# Altium integrated library TI Amplifiers and Linear Instrumentation Amplifier.IntLib: 274 symbols (part 2 of 10)
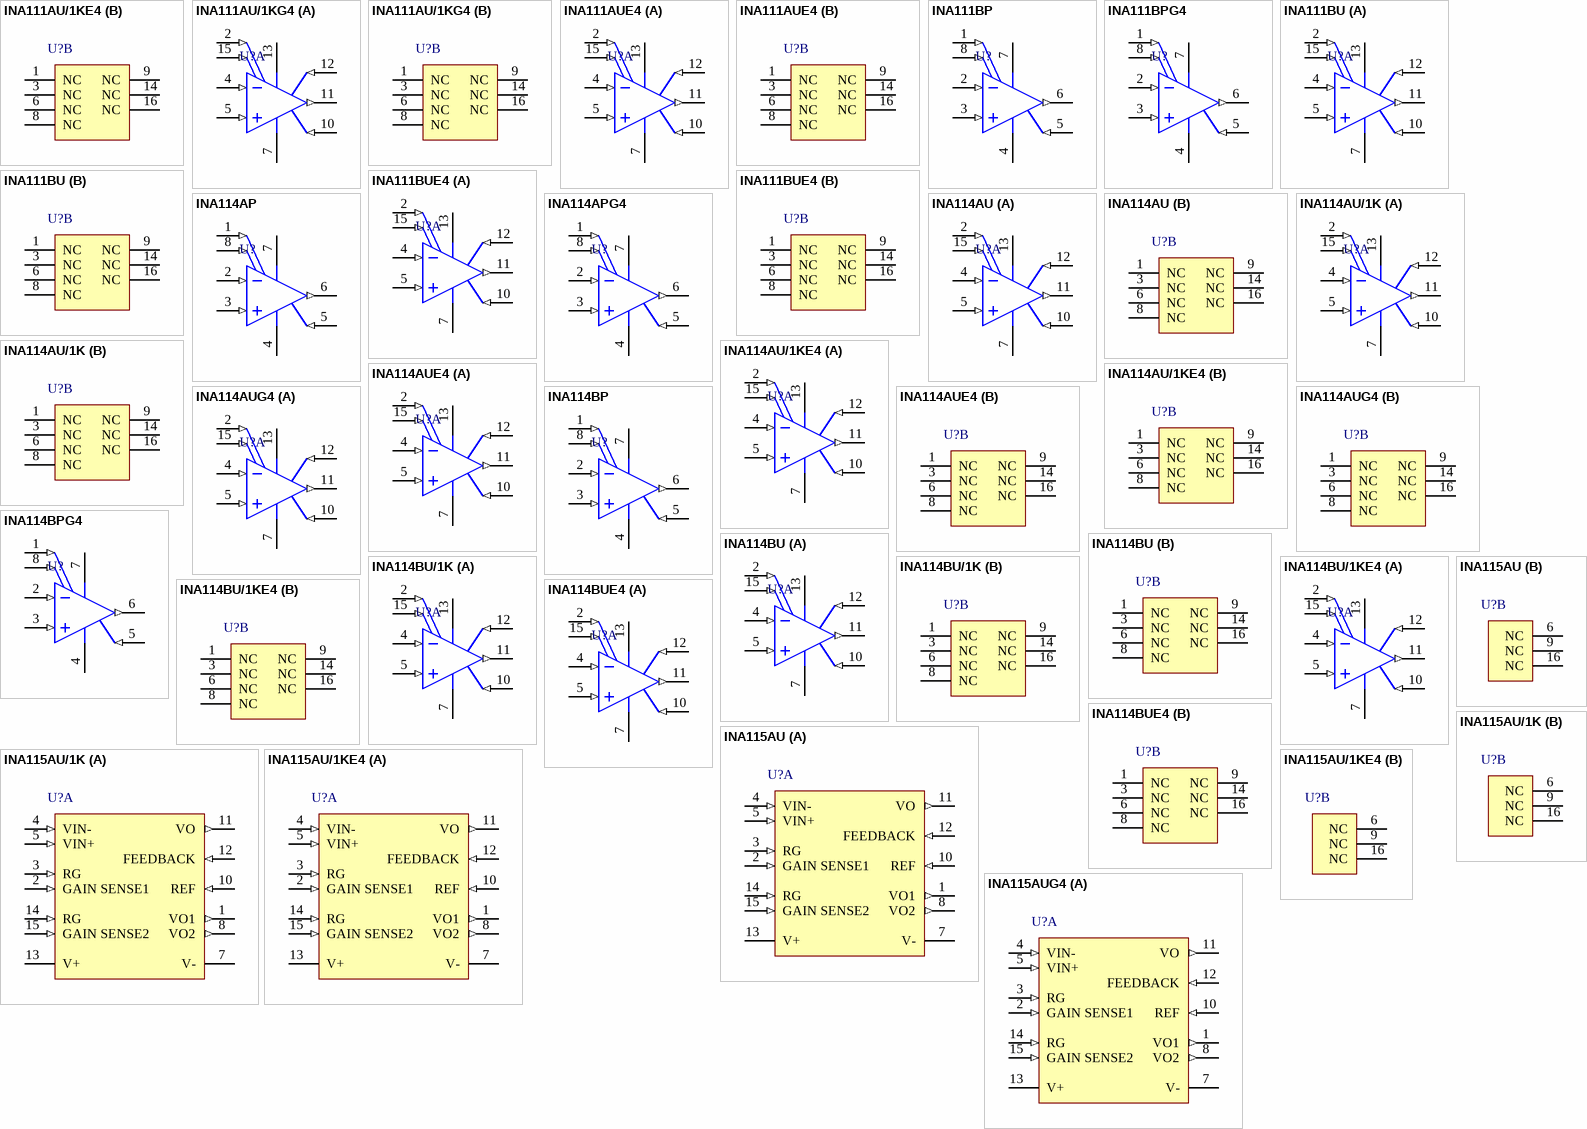
[diagram p9: symbols INA111AU/1KE4 to INA115AUG4]

## INA111BU
designator U?
High Speed FET-Input Instrumentation Amplifier, -40 to 85 degC, 16-pin SOIC (DW16), Green (RoHS & no Sb/Br); Manufacturer: Texas Instruments; PartNumber: INA111BU; CMRR(Min)(dB): 106; Gain(V/V): 1 to 10000; Input Bias Current (+/-)(Max)(nA): 0.02; Input Offset (+/-)(Max)(uV): 500; Input Offset Drift (+/-)(Max)(uV/Degrees Celsius): 5; Noise at 1kHz(Typ)(nV/rt(Hz)): 10; Non-Linearity (+/-)(Max)(%): 0.005; Number of Channels: 1; Quiescent Current (+/-)(Typ)(mA): 3.3; SubFamily: Dual Supply; Vs(Max)(V): 36; Vs(Min)(V): 12; DatasheetVersion: SBOS015; PackageVersion: 4040000-2/G, 01/2011; PackageReference: DW16; PackageDescription: 16-Pin Plastic Small Outline, Body 10.30 x 7.50 mm, Pitch 1.27 mm; Supplier 1: Digi-Key; Supplier Part Number 1: INA111BU-ND; Supplier 2: Farnell; Supplier Part Number 2: 1212398; Supplier 3: Newark; Supplier Part Number 3: 35C1715; Supplier 4: Mouser; Supplier Part Number 4: 595-INA111BU; Eco-Plan: Green (RoHS & no Sb/Br); Mounting Technology: Surface Mount; Code_JEDEC: MS-013; ComponentLink1Description: Manufacturer URL; ComponentLink1URL: http://www.ti.com/; ComponentLink2Description: Datasheet; ComponentLink2URL: http://www.ti.com/general/docs/lit/getliterature.tsp?genericPartNumber=INA111&fileType=pdf; ComponentLink3Description: Package Specification; ComponentLink3URL: http://www.ti.com/litv/pdf/msoi003g
footprint TI-DW16_N (SOIC, 16-Leads, Body 10.5x7.6mm, Pitch 1.27mm, IPC Medium Density)
footprint TI-DW16_L (SOIC, 16-Leads, Body 10.5x7.6mm, Pitch 1.27mm, IPC High Density)
footprint TI-DW16_M (SOIC, 16-Leads, Body 10.5x7.6mm, Pitch 1.27mm, IPC Low Density)
part A pins: 2 RG (in), 4 VIN- (in), 5 VIN+ (in), 7 V- (power), 10 REF (in), 11 VO (out), 12 FEEDBACK (in), 13 V+ (power), 15 RG (in)
part B pins: 1 NC, 3 NC, 6 NC, 8 NC, 9 NC, 14 NC, 16 NC

## INA111BUE4
designator U?
High Speed FET-Input Instrumentation Amplifier, -40 to 85 degC, 16-pin SOIC (DW16), Green (RoHS & no Sb/Br); Manufacturer: Texas Instruments; PartNumber: INA111BUE4; CMRR(Min)(dB): 106; Gain(V/V): 1 to 10000; Input Bias Current (+/-)(Max)(nA): 0.02; Input Offset (+/-)(Max)(uV): 500; Input Offset Drift (+/-)(Max)(uV/Degrees Celsius): 5; Noise at 1kHz(Typ)(nV/rt(Hz)): 10; Non-Linearity (+/-)(Max)(%): 0.005; Number of Channels: 1; Quiescent Current (+/-)(Typ)(mA): 3.3; SubFamily: Dual Supply; Vs(Max)(V): 36; Vs(Min)(V): 12; DatasheetVersion: SBOS015; PackageVersion: 4040000-2/G, 01/2011; PackageReference: DW16; PackageDescription: 16-Pin Plastic Small Outline, Body 10.30 x 7.50 mm, Pitch 1.27 mm; Supplier 1: Digi-Key; Supplier Part Number 1: INA111BUE4-ND; Supplier 2: Newark; Supplier Part Number 2: 28M6054; Supplier 3: Mouser; Supplier Part Number 3: 595-INA111BUE4; Eco-Plan: Green (RoHS & no Sb/Br); Mounting Technology: Surface Mount; Code_JEDEC: MS-013; ComponentLink1Description: Manufacturer URL; ComponentLink1URL: http://www.ti.com/; ComponentLink2Description: Datasheet; ComponentLink2URL: http://www.ti.com/general/docs/lit/getliterature.tsp?genericPartNumber=INA111&fileType=pdf; ComponentLink3Description: Package Specification; ComponentLink3URL: http://www.ti.com/litv/pdf/msoi003g
footprint TI-DW16_N (SOIC, 16-Leads, Body 10.5x7.6mm, Pitch 1.27mm, IPC Medium Density)
footprint TI-DW16_L (SOIC, 16-Leads, Body 10.5x7.6mm, Pitch 1.27mm, IPC High Density)
footprint TI-DW16_M (SOIC, 16-Leads, Body 10.5x7.6mm, Pitch 1.27mm, IPC Low Density)
part A pins: 2 RG (in), 4 VIN- (in), 5 VIN+ (in), 7 V- (power), 10 REF (in), 11 VO (out), 12 FEEDBACK (in), 13 V+ (power), 15 RG (in)
part B pins: 1 NC, 3 NC, 6 NC, 8 NC, 9 NC, 14 NC, 16 NC

## INA114AP
designator U?
Precision Instrumentation Amplifier, -40 to 85 degC, 8-pin DIP (P8), Green (RoHS & no Sb/Br); Manufacturer: Texas Instruments; PartNumber: INA114AP; CMRR(Min)(dB): 106; Gain(V/V): 1 to 10000; Input Bias Current (+/-)(Max)(nA): 5; Input Offset (+/-)(Max)(uV): 125; Input Offset Drift (+/-)(Max)(uV/Degrees Celsius): 1; Noise at 1kHz(Typ)(nV/rt(Hz)): 11; Non-Linearity (+/-)(Max)(%): 0.004; Output Offset (+/-)(Max)(uV): 500/G; Output Offset Drift (+/-)(Max)(uV/Degrees Celsius): 10/G; Quiescent Current (+/-)(Typ)(mA): 2.2; SubFamily: Dual Supply; Vs(Max)(V): 36; Vs(Min)(V): 4.5; DatasheetVersion: SBOS014; PackageVersion: 4040082/E, 04/2010; PackageReference: P8; PackageDescription: 8-Pin Plastic In-Line, Body 9.59 x 6.35 mm, Pitch 2.54 mm; Supplier 1: Digi-Key; Supplier Part Number 1: INA114AP-ND; Supplier 2: Farnell; Supplier Part Number 2: 1564886; Supplier 3: Newark; Supplier Part Number 3: 74K3809; Supplier 4: Mouser; Supplier Part Number 4: 595-INA114AP; Eco-Plan: Green (RoHS & no Sb/Br); Number of Channels: 1; Mounting Technology: Through Hole; Code_JEDEC: MS-001; ComponentLink1Description: Manufacturer URL; ComponentLink1URL: http://www.ti.com/; ComponentLink2Description: Datasheet; ComponentLink2URL: http://www.ti.com/general/docs/lit/getliterature.tsp?genericPartNumber=INA114&fileType=pdf; ComponentLink3Description: Package Specification; ComponentLink3URL: http://www.ti.com/litv/pdf/mpdi001b
footprint TI-P8 (DIP, 8-Leads, Body 10.15x6.6mm, Pitch 2.54mm)
pins: 1 RG (in), 2 VIN- (in), 3 VIN+ (in), 4 V- (power), 5 REF (in), 6 VO (out), 7 V+ (power), 8 RG (in)

## INA114APG4
designator U?
Precision Instrumentation Amplifier, -40 to 85 degC, 8-pin DIP (P8), Green (RoHS & no Sb/Br); Manufacturer: Texas Instruments; PartNumber: INA114APG4; CMRR(Min)(dB): 106; Gain(V/V): 1 to 10000; Input Bias Current (+/-)(Max)(nA): 5; Input Offset (+/-)(Max)(uV): 125; Input Offset Drift (+/-)(Max)(uV/Degrees Celsius): 1; Noise at 1kHz(Typ)(nV/rt(Hz)): 11; Non-Linearity (+/-)(Max)(%): 0.004; Output Offset (+/-)(Max)(uV): 500/G; Output Offset Drift (+/-)(Max)(uV/Degrees Celsius): 10/G; Quiescent Current (+/-)(Typ)(mA): 2.2; SubFamily: Dual Supply; Vs(Max)(V): 36; Vs(Min)(V): 4.5; DatasheetVersion: SBOS014; PackageVersion: 4040082/E, 04/2010; PackageReference: P8; PackageDescription: 8-Pin Plastic In-Line, Body 9.59 x 6.35 mm, Pitch 2.54 mm; Supplier 1: Digi-Key; Supplier Part Number 1: INA114APG4-ND; Supplier 2: Farnell; Supplier Part Number 2: 1305157; Supplier 3: Newark; Supplier Part Number 3: 25M9785; Supplier 4: Newark; Supplier Part Number 4: 14M1991; Supplier 5: Mouser; Supplier Part Number 5: 595-INA114APG4; Eco-Plan: Green (RoHS & no Sb/Br); Number of Channels: 1; Mounting Technology: Through Hole; Code_JEDEC: MS-001; ComponentLink1Description: Manufacturer URL; ComponentLink1URL: http://www.ti.com/; ComponentLink2Description: Datasheet; ComponentLink2URL: http://www.ti.com/general/docs/lit/getliterature.tsp?genericPartNumber=INA114&fileType=pdf; ComponentLink3Description: Package Specification; ComponentLink3URL: http://www.ti.com/litv/pdf/mpdi001b
footprint TI-P8 (DIP, 8-Leads, Body 10.15x6.6mm, Pitch 2.54mm)
pins: 1 RG (in), 2 VIN- (in), 3 VIN+ (in), 4 V- (power), 5 REF (in), 6 VO (out), 7 V+ (power), 8 RG (in)

## INA114AU
designator U?
Precision Instrumentation Amplifier, -40 to 85 degC, 16-pin SOIC (DW16), Green (RoHS & no Sb/Br); Manufacturer: Texas Instruments; PartNumber: INA114AU; CMRR(Min)(dB): 106; Gain(V/V): 1 to 10000; Input Bias Current (+/-)(Max)(nA): 5; Input Offset (+/-)(Max)(uV): 125; Input Offset Drift (+/-)(Max)(uV/Degrees Celsius): 1; Noise at 1kHz(Typ)(nV/rt(Hz)): 11; Non-Linearity (+/-)(Max)(%): 0.004; Output Offset (+/-)(Max)(uV): 500/G; Output Offset Drift (+/-)(Max)(uV/Degrees Celsius): 10/G; Quiescent Current (+/-)(Typ)(mA): 2.2; SubFamily: Dual Supply; Vs(Max)(V): 36; Vs(Min)(V): 4.5; DatasheetVersion: SBOS014; PackageVersion: 4040000-2/G, 01/2011; PackageReference: DW16; PackageDescription: 16-Pin Plastic Small Outline, Body 10.30 x 7.50 mm, Pitch 1.27 mm; Supplier 1: Digi-Key; Supplier Part Number 1: INA114AU-ND; Supplier 2: Newark; Supplier Part Number 2: 35C0481; Supplier 3: Mouser; Supplier Part Number 3: 595-INA114AU; Eco-Plan: Green (RoHS & no Sb/Br); Number of Channels: 1; Mounting Technology: Surface Mount; Code_JEDEC: MS-013; ComponentLink1Description: Manufacturer URL; ComponentLink1URL: http://www.ti.com/; ComponentLink2Description: Datasheet; ComponentLink2URL: http://www.ti.com/general/docs/lit/getliterature.tsp?genericPartNumber=INA114&fileType=pdf; ComponentLink3Description: Package Specification; ComponentLink3URL: http://www.ti.com/litv/pdf/msoi003g
footprint TI-DW16_N (SOIC, 16-Leads, Body 10.5x7.6mm, Pitch 1.27mm, IPC Medium Density)
footprint TI-DW16_L (SOIC, 16-Leads, Body 10.5x7.6mm, Pitch 1.27mm, IPC High Density)
footprint TI-DW16_M (SOIC, 16-Leads, Body 10.5x7.6mm, Pitch 1.27mm, IPC Low Density)
part A pins: 2 RG (in), 4 VIN- (in), 5 VIN+ (in), 7 V- (power), 10 REF (in), 11 VO (out), 12 FEEDBACK (in), 13 V+ (power), 15 RG (in)
part B pins: 1 NC, 3 NC, 6 NC, 8 NC, 9 NC, 14 NC, 16 NC

## INA114AU/1K
designator U?
Precision Instrumentation Amplifier, -40 to 85 degC, 16-pin SOIC (DW16), Green (RoHS & no Sb/Br); Manufacturer: Texas Instruments; PartNumber: INA114AU/1K; CMRR(Min)(dB): 106; Gain(V/V): 1 to 10000; Input Bias Current (+/-)(Max)(nA): 5; Input Offset (+/-)(Max)(uV): 125; Input Offset Drift (+/-)(Max)(uV/Degrees Celsius): 1; Noise at 1kHz(Typ)(nV/rt(Hz)): 11; Non-Linearity (+/-)(Max)(%): 0.004; Output Offset (+/-)(Max)(uV): 500/G; Output Offset Drift (+/-)(Max)(uV/Degrees Celsius): 10/G; Quiescent Current (+/-)(Typ)(mA): 2.2; SubFamily: Dual Supply; Vs(Max)(V): 36; Vs(Min)(V): 4.5; DatasheetVersion: SBOS014; PackageVersion: 4040000-2/G, 01/2011; PackageReference: DW16; PackageDescription: 16-Pin Plastic Small Outline, Body 10.30 x 7.50 mm, Pitch 1.27 mm; Supplier 1: Digi-Key; Supplier Part Number 1: INA114AU/1K-ND; Supplier 2: Newark; Supplier Part Number 2: 74C9758; Supplier 3: Mouser; Supplier Part Number 3: 595-INA114AU/1K; Eco-Plan: Green (RoHS & no Sb/Br); Number of Channels: 1; Mounting Technology: Surface Mount; Code_JEDEC: MS-013; ComponentLink1Description: Manufacturer URL; ComponentLink1URL: http://www.ti.com/; ComponentLink2Description: Datasheet; ComponentLink2URL: http://www.ti.com/general/docs/lit/getliterature.tsp?genericPartNumber=INA114&fileType=pdf; ComponentLink3Description: Package Specification; ComponentLink3URL: http://www.ti.com/litv/pdf/msoi003g
footprint TI-DW16_N (SOIC, 16-Leads, Body 10.5x7.6mm, Pitch 1.27mm, IPC Medium Density)
footprint TI-DW16_L (SOIC, 16-Leads, Body 10.5x7.6mm, Pitch 1.27mm, IPC High Density)
footprint TI-DW16_M (SOIC, 16-Leads, Body 10.5x7.6mm, Pitch 1.27mm, IPC Low Density)
part A pins: 2 RG (in), 4 VIN- (in), 5 VIN+ (in), 7 V- (power), 10 REF (in), 11 VO (out), 12 FEEDBACK (in), 13 V+ (power), 15 RG (in)
part B pins: 1 NC, 3 NC, 6 NC, 8 NC, 9 NC, 14 NC, 16 NC

## INA114AU/1KE4
designator U?
Precision Instrumentation Amplifier, -40 to 85 degC, 16-pin SOIC (DW16), Green (RoHS & no Sb/Br); Manufacturer: Texas Instruments; PartNumber: INA114AU/1KE4; CMRR(Min)(dB): 106; Gain(V/V): 1 to 10000; Input Bias Current (+/-)(Max)(nA): 5; Input Offset (+/-)(Max)(uV): 125; Input Offset Drift (+/-)(Max)(uV/Degrees Celsius): 1; Noise at 1kHz(Typ)(nV/rt(Hz)): 11; Non-Linearity (+/-)(Max)(%): 0.004; Output Offset (+/-)(Max)(uV): 500/G; Output Offset Drift (+/-)(Max)(uV/Degrees Celsius): 10/G; Quiescent Current (+/-)(Typ)(mA): 2.2; SubFamily: Dual Supply; Vs(Max)(V): 36; Vs(Min)(V): 4.5; DatasheetVersion: SBOS014; PackageVersion: 4040000-2/G, 01/2011; PackageReference: DW16; PackageDescription: 16-Pin Plastic Small Outline, Body 10.30 x 7.50 mm, Pitch 1.27 mm; Supplier 1: Digi-Key; Supplier Part Number 1: INA114AU/1KE4-ND; Supplier 2: Mouser; Supplier Part Number 2: 595-INA114AU/1KE4; Eco-Plan: Green (RoHS & no Sb/Br); Number of Channels: 1; Mounting Technology: Surface Mount; Code_JEDEC: MS-013; ComponentLink1Description: Manufacturer URL; ComponentLink1URL: http://www.ti.com/; ComponentLink2Description: Datasheet; ComponentLink2URL: http://www.ti.com/general/docs/lit/getliterature.tsp?genericPartNumber=INA114&fileType=pdf; ComponentLink3Description: Package Specification; ComponentLink3URL: http://www.ti.com/litv/pdf/msoi003g
footprint TI-DW16_N (SOIC, 16-Leads, Body 10.5x7.6mm, Pitch 1.27mm, IPC Medium Density)
footprint TI-DW16_L (SOIC, 16-Leads, Body 10.5x7.6mm, Pitch 1.27mm, IPC High Density)
footprint TI-DW16_M (SOIC, 16-Leads, Body 10.5x7.6mm, Pitch 1.27mm, IPC Low Density)
part A pins: 2 RG (in), 4 VIN- (in), 5 VIN+ (in), 7 V- (power), 10 REF (in), 11 VO (out), 12 FEEDBACK (in), 13 V+ (power), 15 RG (in)
part B pins: 1 NC, 3 NC, 6 NC, 8 NC, 9 NC, 14 NC, 16 NC

## INA114AUE4
designator U?
Precision Instrumentation Amplifier, -40 to 85 degC, 16-pin SOIC (DW16), Green (RoHS & no Sb/Br); Manufacturer: Texas Instruments; PartNumber: INA114AUE4; CMRR(Min)(dB): 106; Gain(V/V): 1 to 10000; Input Bias Current (+/-)(Max)(nA): 5; Input Offset (+/-)(Max)(uV): 125; Input Offset Drift (+/-)(Max)(uV/Degrees Celsius): 1; Noise at 1kHz(Typ)(nV/rt(Hz)): 11; Non-Linearity (+/-)(Max)(%): 0.004; Output Offset (+/-)(Max)(uV): 500/G; Output Offset Drift (+/-)(Max)(uV/Degrees Celsius): 10/G; Quiescent Current (+/-)(Typ)(mA): 2.2; SubFamily: Dual Supply; Vs(Max)(V): 36; Vs(Min)(V): 4.5; DatasheetVersion: SBOS014; PackageVersion: 4040000-2/G, 01/2011; PackageReference: DW16; PackageDescription: 16-Pin Plastic Small Outline, Body 10.30 x 7.50 mm, Pitch 1.27 mm; Supplier 1: Digi-Key; Supplier Part Number 1: INA114AUE4-ND; Supplier 2: Farnell; Supplier Part Number 2: 1178436; Supplier 3: Newark; Supplier Part Number 3: 17M8755; Supplier 4: Newark; Supplier Part Number 4: 61K0024; Supplier 5: Mouser; Supplier Part Number 5: 595-INA114AUE4; Eco-Plan: Green (RoHS & no Sb/Br); Number of Channels: 1; Mounting Technology: Surface Mount; Code_JEDEC: MS-013; ComponentLink1Description: Manufacturer URL; ComponentLink1URL: http://www.ti.com/; ComponentLink2Description: Datasheet; ComponentLink2URL: http://www.ti.com/general/docs/lit/getliterature.tsp?genericPartNumber=INA114&fileType=pdf; ComponentLink3Description: Package Specification; ComponentLink3URL: http://www.ti.com/litv/pdf/msoi003g
footprint TI-DW16_N (SOIC, 16-Leads, Body 10.5x7.6mm, Pitch 1.27mm, IPC Medium Density)
footprint TI-DW16_L (SOIC, 16-Leads, Body 10.5x7.6mm, Pitch 1.27mm, IPC High Density)
footprint TI-DW16_M (SOIC, 16-Leads, Body 10.5x7.6mm, Pitch 1.27mm, IPC Low Density)
part A pins: 2 RG (in), 4 VIN- (in), 5 VIN+ (in), 7 V- (power), 10 REF (in), 11 VO (out), 12 FEEDBACK (in), 13 V+ (power), 15 RG (in)
part B pins: 1 NC, 3 NC, 6 NC, 8 NC, 9 NC, 14 NC, 16 NC

## INA114AUG4
designator U?
Precision Instrumentation Amplifier, -40 to 85 degC, 16-pin SOIC (DW16), Green (RoHS & no Sb/Br); Manufacturer: Texas Instruments; PartNumber: INA114AUG4; CMRR(Min)(dB): 106; Gain(V/V): 1 to 10000; Input Bias Current (+/-)(Max)(nA): 5; Input Offset (+/-)(Max)(uV): 125; Input Offset Drift (+/-)(Max)(uV/Degrees Celsius): 1; Noise at 1kHz(Typ)(nV/rt(Hz)): 11; Non-Linearity (+/-)(Max)(%): 0.004; Output Offset (+/-)(Max)(uV): 500/G; Output Offset Drift (+/-)(Max)(uV/Degrees Celsius): 10/G; Quiescent Current (+/-)(Typ)(mA): 2.2; SubFamily: Dual Supply; Vs(Max)(V): 36; Vs(Min)(V): 4.5; DatasheetVersion: SBOS014; PackageVersion: 4040000-2/G, 01/2011; PackageReference: DW16; PackageDescription: 16-Pin Plastic Small Outline, Body 10.30 x 7.50 mm, Pitch 1.27 mm; Supplier 1: Digi-Key; Supplier Part Number 1: INA114AUG4-ND; Supplier 2: Mouser; Supplier Part Number 2: 595-INA114AUG4; Eco-Plan: Green (RoHS & no Sb/Br); Number of Channels: 1; Mounting Technology: Surface Mount; Code_JEDEC: MS-013; ComponentLink1Description: Manufacturer URL; ComponentLink1URL: http://www.ti.com/; ComponentLink2Description: Datasheet; ComponentLink2URL: http://www.ti.com/general/docs/lit/getliterature.tsp?genericPartNumber=INA114&fileType=pdf; ComponentLink3Description: Package Specification; ComponentLink3URL: http://www.ti.com/litv/pdf/msoi003g
footprint TI-DW16_N (SOIC, 16-Leads, Body 10.5x7.6mm, Pitch 1.27mm, IPC Medium Density)
footprint TI-DW16_L (SOIC, 16-Leads, Body 10.5x7.6mm, Pitch 1.27mm, IPC High Density)
footprint TI-DW16_M (SOIC, 16-Leads, Body 10.5x7.6mm, Pitch 1.27mm, IPC Low Density)
part A pins: 2 RG (in), 4 VIN- (in), 5 VIN+ (in), 7 V- (power), 10 REF (in), 11 VO (out), 12 FEEDBACK (in), 13 V+ (power), 15 RG (in)
part B pins: 1 NC, 3 NC, 6 NC, 8 NC, 9 NC, 14 NC, 16 NC

## INA114BP
designator U?
Precision Instrumentation Amplifier, -40 to 85 degC, 8-pin DIP (P8), Green (RoHS & no Sb/Br); Manufacturer: Texas Instruments; PartNumber: INA114BP; CMRR(Min)(dB): 110; Gain(V/V): 1 to 10000; Input Bias Current (+/-)(Max)(nA): 2; Input Offset (+/-)(Max)(uV): 50; Input Offset Drift (+/-)(Max)(uV/Degrees Celsius): 0.25; Noise at 1kHz(Typ)(nV/rt(Hz)): 11; Non-Linearity (+/-)(Max)(%): 0.002; Number of Channels: 1; Output Offset (+/-)(Max)(uV): 100/G; Output Offset Drift (+/-)(Max)(uV/Degrees Celsius): 5/G; Quiescent Current (+/-)(Typ)(mA): 2.2; SubFamily: Dual Supply; Vs(Max)(V): 36; Vs(Min)(V): 4.5; DatasheetVersion: SBOS014; PackageVersion: 4040082/E, 04/2010; PackageReference: P8; PackageDescription: 8-Pin Plastic In-Line, Body 9.59 x 6.35 mm, Pitch 2.54 mm; Supplier 1: Digi-Key; Supplier Part Number 1: INA114BP-ND; Supplier 2: Farnell; Supplier Part Number 2: 1212399; Supplier 3: Newark; Supplier Part Number 3: 74K3810; Supplier 4: Mouser; Supplier Part Number 4: 595-INA114BP; Eco-Plan: Green (RoHS & no Sb/Br); Mounting Technology: Through Hole; Code_JEDEC: MS-001; ComponentLink1Description: Manufacturer URL; ComponentLink1URL: http://www.ti.com/; ComponentLink2Description: Datasheet; ComponentLink2URL: http://www.ti.com/general/docs/lit/getliterature.tsp?genericPartNumber=INA114&fileType=pdf; ComponentLink3Description: Package Specification; ComponentLink3URL: http://www.ti.com/litv/pdf/mpdi001b
footprint TI-P8 (DIP, 8-Leads, Body 10.15x6.6mm, Pitch 2.54mm)
pins: 1 RG (in), 2 VIN- (in), 3 VIN+ (in), 4 V- (power), 5 REF (in), 6 VO (out), 7 V+ (power), 8 RG (in)

## INA114BPG4
designator U?
Precision Instrumentation Amplifier, -40 to 85 degC, 8-pin DIP (P8), Green (RoHS & no Sb/Br); Manufacturer: Texas Instruments; PartNumber: INA114BPG4; CMRR(Min)(dB): 110; Gain(V/V): 1 to 10000; Input Bias Current (+/-)(Max)(nA): 2; Input Offset (+/-)(Max)(uV): 50; Input Offset Drift (+/-)(Max)(uV/Degrees Celsius): 0.25; Noise at 1kHz(Typ)(nV/rt(Hz)): 11; Non-Linearity (+/-)(Max)(%): 0.002; Number of Channels: 1; Output Offset (+/-)(Max)(uV): 100/G; Output Offset Drift (+/-)(Max)(uV/Degrees Celsius): 5/G; Quiescent Current (+/-)(Typ)(mA): 2.2; SubFamily: Dual Supply; Vs(Max)(V): 36; Vs(Min)(V): 4.5; DatasheetVersion: SBOS014; PackageVersion: 4040082/E, 04/2010; PackageReference: P8; PackageDescription: 8-Pin Plastic In-Line, Body 9.59 x 6.35 mm, Pitch 2.54 mm; Supplier 1: Digi-Key; Supplier Part Number 1: INA114BPG4-ND; Supplier 2: Newark; Supplier Part Number 2: 99K2227; Supplier 3: Mouser; Supplier Part Number 3: 595-INA114BPG4; Eco-Plan: Green (RoHS & no Sb/Br); Mounting Technology: Through Hole; Code_JEDEC: MS-001; ComponentLink1Description: Manufacturer URL; ComponentLink1URL: http://www.ti.com/; ComponentLink2Description: Datasheet; ComponentLink2URL: http://www.ti.com/general/docs/lit/getliterature.tsp?genericPartNumber=INA114&fileType=pdf; ComponentLink3Description: Package Specification; ComponentLink3URL: http://www.ti.com/litv/pdf/mpdi001b
footprint TI-P8 (DIP, 8-Leads, Body 10.15x6.6mm, Pitch 2.54mm)
pins: 1 RG (in), 2 VIN- (in), 3 VIN+ (in), 4 V- (power), 5 REF (in), 6 VO (out), 7 V+ (power), 8 RG (in)

## INA114BU
designator U?
Precision Instrumentation Amplifier, -40 to 85 degC, 16-pin SOIC (DW16), Green (RoHS & no Sb/Br); Manufacturer: Texas Instruments; PartNumber: INA114BU; CMRR(Min)(dB): 110; Gain(V/V): 1 to 10000; Input Bias Current (+/-)(Max)(nA): 2; Input Offset (+/-)(Max)(uV): 50; Input Offset Drift (+/-)(Max)(uV/Degrees Celsius): 0.25; Noise at 1kHz(Typ)(nV/rt(Hz)): 11; Non-Linearity (+/-)(Max)(%): 0.002; Number of Channels: 1; Output Offset (+/-)(Max)(uV): 100/G; Output Offset Drift (+/-)(Max)(uV/Degrees Celsius): 5/G; Quiescent Current (+/-)(Typ)(mA): 2.2; SubFamily: Dual Supply; Vs(Max)(V): 36; Vs(Min)(V): 4.5; DatasheetVersion: SBOS014; PackageVersion: 4040000-2/G, 01/2011; PackageReference: DW16; PackageDescription: 16-Pin Plastic Small Outline, Body 10.30 x 7.50 mm, Pitch 1.27 mm; Supplier 1: Digi-Key; Supplier Part Number 1: INA114BU-ND; Supplier 2: Farnell; Supplier Part Number 2: 1212401; Supplier 3: Newark; Supplier Part Number 3: 74C9759; Supplier 4: Mouser; Supplier Part Number 4: 595-INA114BU; Eco-Plan: Green (RoHS & no Sb/Br); Mounting Technology: Surface Mount; Code_JEDEC: MS-013; ComponentLink1Description: Manufacturer URL; ComponentLink1URL: http://www.ti.com/; ComponentLink2Description: Datasheet; ComponentLink2URL: http://www.ti.com/general/docs/lit/getliterature.tsp?genericPartNumber=INA114&fileType=pdf; ComponentLink3Description: Package Specification; ComponentLink3URL: http://www.ti.com/litv/pdf/msoi003g
footprint TI-DW16_N (SOIC, 16-Leads, Body 10.5x7.6mm, Pitch 1.27mm, IPC Medium Density)
footprint TI-DW16_L (SOIC, 16-Leads, Body 10.5x7.6mm, Pitch 1.27mm, IPC High Density)
footprint TI-DW16_M (SOIC, 16-Leads, Body 10.5x7.6mm, Pitch 1.27mm, IPC Low Density)
part A pins: 2 RG (in), 4 VIN- (in), 5 VIN+ (in), 7 V- (power), 10 REF (in), 11 VO (out), 12 FEEDBACK (in), 13 V+ (power), 15 RG (in)
part B pins: 1 NC, 3 NC, 6 NC, 8 NC, 9 NC, 14 NC, 16 NC

## INA114BU/1K
designator U?
Precision Instrumentation Amplifier, -40 to 85 degC, 16-pin SOIC (DW16), Green (RoHS & no Sb/Br); Manufacturer: Texas Instruments; PartNumber: INA114BU/1K; CMRR(Min)(dB): 110; Gain(V/V): 1 to 10000; Input Bias Current (+/-)(Max)(nA): 2; Input Offset (+/-)(Max)(uV): 50; Input Offset Drift (+/-)(Max)(uV/Degrees Celsius): 0.25; Noise at 1kHz(Typ)(nV/rt(Hz)): 11; Non-Linearity (+/-)(Max)(%): 0.002; Number of Channels: 1; Output Offset (+/-)(Max)(uV): 100/G; Output Offset Drift (+/-)(Max)(uV/Degrees Celsius): 5/G; Quiescent Current (+/-)(Typ)(mA): 2.2; SubFamily: Dual Supply; Vs(Max)(V): 36; Vs(Min)(V): 4.5; DatasheetVersion: SBOS014; PackageVersion: 4040000-2/G, 01/2011; PackageReference: DW16; PackageDescription: 16-Pin Plastic Small Outline, Body 10.30 x 7.50 mm, Pitch 1.27 mm; Supplier 1: Digi-Key; Supplier Part Number 1: INA114BU/1K-ND; Supplier 2: Newark; Supplier Part Number 2: 74C9760; Supplier 3: Mouser; Supplier Part Number 3: 595-INA114BU/1K; Eco-Plan: Green (RoHS & no Sb/Br); Mounting Technology: Surface Mount; Code_JEDEC: MS-013; ComponentLink1Description: Manufacturer URL; ComponentLink1URL: http://www.ti.com/; ComponentLink2Description: Datasheet; ComponentLink2URL: http://www.ti.com/general/docs/lit/getliterature.tsp?genericPartNumber=INA114&fileType=pdf; ComponentLink3Description: Package Specification; ComponentLink3URL: http://www.ti.com/litv/pdf/msoi003g
footprint TI-DW16_N (SOIC, 16-Leads, Body 10.5x7.6mm, Pitch 1.27mm, IPC Medium Density)
footprint TI-DW16_L (SOIC, 16-Leads, Body 10.5x7.6mm, Pitch 1.27mm, IPC High Density)
footprint TI-DW16_M (SOIC, 16-Leads, Body 10.5x7.6mm, Pitch 1.27mm, IPC Low Density)
part A pins: 2 RG (in), 4 VIN- (in), 5 VIN+ (in), 7 V- (power), 10 REF (in), 11 VO (out), 12 FEEDBACK (in), 13 V+ (power), 15 RG (in)
part B pins: 1 NC, 3 NC, 6 NC, 8 NC, 9 NC, 14 NC, 16 NC

## INA114BU/1KE4
designator U?
Precision Instrumentation Amplifier, -40 to 85 degC, 16-pin SOIC (DW16), Green (RoHS & no Sb/Br); Manufacturer: Texas Instruments; PartNumber: INA114BU/1KE4; CMRR(Min)(dB): 110; Gain(V/V): 1 to 10000; Input Bias Current (+/-)(Max)(nA): 2; Input Offset (+/-)(Max)(uV): 50; Input Offset Drift (+/-)(Max)(uV/Degrees Celsius): 0.25; Noise at 1kHz(Typ)(nV/rt(Hz)): 11; Non-Linearity (+/-)(Max)(%): 0.002; Number of Channels: 1; Output Offset (+/-)(Max)(uV): 100/G; Output Offset Drift (+/-)(Max)(uV/Degrees Celsius): 5/G; Quiescent Current (+/-)(Typ)(mA): 2.2; SubFamily: Dual Supply; Vs(Max)(V): 36; Vs(Min)(V): 4.5; DatasheetVersion: SBOS014; PackageVersion: 4040000-2/G, 01/2011; PackageReference: DW16; PackageDescription: 16-Pin Plastic Small Outline, Body 10.30 x 7.50 mm, Pitch 1.27 mm; Supplier 1: Digi-Key; Supplier Part Number 1: INA114BU/1KE4-ND; Supplier 2: Newark; Supplier Part Number 2: 28M6055; Supplier 3: Mouser; Supplier Part Number 3: 595-INA114BU/1KE4; Eco-Plan: Green (RoHS & no Sb/Br); Mounting Technology: Surface Mount; Code_JEDEC: MS-013; ComponentLink1Description: Manufacturer URL; ComponentLink1URL: http://www.ti.com/; ComponentLink2Description: Datasheet; ComponentLink2URL: http://www.ti.com/general/docs/lit/getliterature.tsp?genericPartNumber=INA114&fileType=pdf; ComponentLink3Description: Package Specification; ComponentLink3URL: http://www.ti.com/litv/pdf/msoi003g
footprint TI-DW16_N (SOIC, 16-Leads, Body 10.5x7.6mm, Pitch 1.27mm, IPC Medium Density)
footprint TI-DW16_L (SOIC, 16-Leads, Body 10.5x7.6mm, Pitch 1.27mm, IPC High Density)
footprint TI-DW16_M (SOIC, 16-Leads, Body 10.5x7.6mm, Pitch 1.27mm, IPC Low Density)
part A pins: 2 RG (in), 4 VIN- (in), 5 VIN+ (in), 7 V- (power), 10 REF (in), 11 VO (out), 12 FEEDBACK (in), 13 V+ (power), 15 RG (in)
part B pins: 1 NC, 3 NC, 6 NC, 8 NC, 9 NC, 14 NC, 16 NC

## INA114BUE4
designator U?
Precision Instrumentation Amplifier, -40 to 85 degC, 16-pin SOIC (DW16), Green (RoHS & no Sb/Br); Manufacturer: Texas Instruments; PartNumber: INA114BUE4; CMRR(Min)(dB): 110; Gain(V/V): 1 to 10000; Input Bias Current (+/-)(Max)(nA): 2; Input Offset (+/-)(Max)(uV): 50; Input Offset Drift (+/-)(Max)(uV/Degrees Celsius): 0.25; Noise at 1kHz(Typ)(nV/rt(Hz)): 11; Non-Linearity (+/-)(Max)(%): 0.002; Number of Channels: 1; Output Offset (+/-)(Max)(uV): 100/G; Output Offset Drift (+/-)(Max)(uV/Degrees Celsius): 5/G; Quiescent Current (+/-)(Typ)(mA): 2.2; SubFamily: Dual Supply; Vs(Max)(V): 36; Vs(Min)(V): 4.5; DatasheetVersion: SBOS014; PackageVersion: 4040000-2/G, 01/2011; PackageReference: DW16; PackageDescription: 16-Pin Plastic Small Outline, Body 10.30 x 7.50 mm, Pitch 1.27 mm; Supplier 1: Digi-Key; Supplier Part Number 1: INA114BUE4-ND; Supplier 2: Newark; Supplier Part Number 2: 28M6056; Supplier 3: Mouser; Supplier Part Number 3: 595-INA114BUE4; Eco-Plan: Green (RoHS & no Sb/Br); Mounting Technology: Surface Mount; Code_JEDEC: MS-013; ComponentLink1Description: Manufacturer URL; ComponentLink1URL: http://www.ti.com/; ComponentLink2Description: Datasheet; ComponentLink2URL: http://www.ti.com/general/docs/lit/getliterature.tsp?genericPartNumber=INA114&fileType=pdf; ComponentLink3Description: Package Specification; ComponentLink3URL: http://www.ti.com/litv/pdf/msoi003g
footprint TI-DW16_N (SOIC, 16-Leads, Body 10.5x7.6mm, Pitch 1.27mm, IPC Medium Density)
footprint TI-DW16_L (SOIC, 16-Leads, Body 10.5x7.6mm, Pitch 1.27mm, IPC High Density)
footprint TI-DW16_M (SOIC, 16-Leads, Body 10.5x7.6mm, Pitch 1.27mm, IPC Low Density)
part A pins: 2 RG (in), 4 VIN- (in), 5 VIN+ (in), 7 V- (power), 10 REF (in), 11 VO (out), 12 FEEDBACK (in), 13 V+ (power), 15 RG (in)
part B pins: 1 NC, 3 NC, 6 NC, 8 NC, 9 NC, 14 NC, 16 NC

## INA115AU
designator U?
Precision Instrumentation Amplifier, -40 to 85 degC, 16-pin SOIC (DW16), Green (RoHS & no Sb/Br); Manufacturer: Texas Instruments; PartNumber: INA115AU; CMRR(Min)(dB): 106; Gain(V/V): 1 to 10000; Input Bias Current (+/-)(Max)(nA): 5; Input Offset (+/-)(Max)(uV): 125; Input Offset Drift (+/-)(Max)(uV/Degrees Celsius): 1; Noise at 1kHz(Typ)(nV/rt(Hz)): 11; Non-Linearity (+/-)(Max)(%): 0.004; Output Offset (+/-)(Max)(uV): 500/G; Output Offset Drift (+/-)(Max)(uV/Degrees Celsius): 10/G; Quiescent Current (+/-)(Typ)(mA): 2.2; SubFamily: Dual Supply; Vs(Max)(V): 36; Vs(Min)(V): 4.5; DatasheetVersion: SBOS021; PackageVersion: 4040000-2/G, 01/2011; PackageReference: DW16; PackageDescription: 16-Pin Plastic Small Outline, Body 10.30 x 7.50 mm, Pitch 1.27 mm; Supplier 1: Digi-Key; Supplier Part Number 1: INA115AU-ND; Supplier 2: Mouser; Supplier Part Number 2: 595-INA115AU; Eco-Plan: Green (RoHS & no Sb/Br); Number of Channels: 1; Mounting Technology: Surface Mount; Code_JEDEC: MS-013; ComponentLink1Description: Manufacturer URL; ComponentLink1URL: http://www.ti.com/; ComponentLink2Description: Datasheet; ComponentLink2URL: http://www.ti.com/general/docs/lit/getliterature.tsp?genericPartNumber=INA115&fileType=pdf; ComponentLink3Description: Package Specification; ComponentLink3URL: http://www.ti.com/litv/pdf/msoi003g
footprint TI-DW16_N (SOIC, 16-Leads, Body 10.5x7.6mm, Pitch 1.27mm, IPC Medium Density)
footprint TI-DW16_L (SOIC, 16-Leads, Body 10.5x7.6mm, Pitch 1.27mm, IPC High Density)
footprint TI-DW16_M (SOIC, 16-Leads, Body 10.5x7.6mm, Pitch 1.27mm, IPC Low Density)
part A pins: 1 VO1 (out), 2 GAIN SENSE1 (in), 3 RG (in), 4 VIN- (in), 5 VIN+ (in), 7 V- (power), 8 VO2 (out), 10 REF (in), 11 VO (out), 12 FEEDBACK (in), 13 V+ (power), 14 RG (in), 15 GAIN SENSE2 (in)
part B pins: 6 NC, 9 NC, 16 NC

## INA115AU/1K
designator U?
Precision Instrumentation Amplifier, -40 to 85 degC, 16-pin SOIC (DW16), Green (RoHS & no Sb/Br); Manufacturer: Texas Instruments; PartNumber: INA115AU/1K; CMRR(Min)(dB): 106; Gain(V/V): 1 to 10000; Input Bias Current (+/-)(Max)(nA): 5; Input Offset (+/-)(Max)(uV): 125; Input Offset Drift (+/-)(Max)(uV/Degrees Celsius): 1; Noise at 1kHz(Typ)(nV/rt(Hz)): 11; Non-Linearity (+/-)(Max)(%): 0.004; Output Offset (+/-)(Max)(uV): 500/G; Output Offset Drift (+/-)(Max)(uV/Degrees Celsius): 10/G; Quiescent Current (+/-)(Typ)(mA): 2.2; SubFamily: Dual Supply; Vs(Max)(V): 36; Vs(Min)(V): 4.5; DatasheetVersion: SBOS021; PackageVersion: 4040000-2/G, 01/2011; PackageReference: DW16; PackageDescription: 16-Pin Plastic Small Outline, Body 10.30 x 7.50 mm, Pitch 1.27 mm; Supplier 1: Digi-Key; Supplier Part Number 1: INA115AU/1K-ND; Supplier 2: Mouser; Supplier Part Number 2: 595-INA115AU/1K; Eco-Plan: Green (RoHS & no Sb/Br); Number of Channels: 1; Mounting Technology: Surface Mount; Code_JEDEC: MS-013; ComponentLink1Description: Manufacturer URL; ComponentLink1URL: http://www.ti.com/; ComponentLink2Description: Datasheet; ComponentLink2URL: http://www.ti.com/general/docs/lit/getliterature.tsp?genericPartNumber=INA115&fileType=pdf; ComponentLink3Description: Package Specification; ComponentLink3URL: http://www.ti.com/litv/pdf/msoi003g
footprint TI-DW16_N (SOIC, 16-Leads, Body 10.5x7.6mm, Pitch 1.27mm, IPC Medium Density)
footprint TI-DW16_L (SOIC, 16-Leads, Body 10.5x7.6mm, Pitch 1.27mm, IPC High Density)
footprint TI-DW16_M (SOIC, 16-Leads, Body 10.5x7.6mm, Pitch 1.27mm, IPC Low Density)
part A pins: 1 VO1 (out), 2 GAIN SENSE1 (in), 3 RG (in), 4 VIN- (in), 5 VIN+ (in), 7 V- (power), 8 VO2 (out), 10 REF (in), 11 VO (out), 12 FEEDBACK (in), 13 V+ (power), 14 RG (in), 15 GAIN SENSE2 (in)
part B pins: 6 NC, 9 NC, 16 NC

## INA115AU/1KE4
designator U?
Precision Instrumentation Amplifier, -40 to 85 degC, 16-pin SOIC (DW16), Green (RoHS & no Sb/Br); Manufacturer: Texas Instruments; PartNumber: INA115AU/1KE4; CMRR(Min)(dB): 106; Gain(V/V): 1 to 10000; Input Bias Current (+/-)(Max)(nA): 5; Input Offset (+/-)(Max)(uV): 125; Input Offset Drift (+/-)(Max)(uV/Degrees Celsius): 1; Noise at 1kHz(Typ)(nV/rt(Hz)): 11; Non-Linearity (+/-)(Max)(%): 0.004; Output Offset (+/-)(Max)(uV): 500/G; Output Offset Drift (+/-)(Max)(uV/Degrees Celsius): 10/G; Quiescent Current (+/-)(Typ)(mA): 2.2; SubFamily: Dual Supply; Vs(Max)(V): 36; Vs(Min)(V): 4.5; DatasheetVersion: SBOS021; PackageVersion: 4040000-2/G, 01/2011; PackageReference: DW16; PackageDescription: 16-Pin Plastic Small Outline, Body 10.30 x 7.50 mm, Pitch 1.27 mm; Supplier 1: Digi-Key; Supplier Part Number 1: INA115AU/1KE4-ND; Supplier 2: Mouser; Supplier Part Number 2: 595-INA115AU/1KE4; Eco-Plan: Green (RoHS & no Sb/Br); Number of Channels: 1; Mounting Technology: Surface Mount; Code_JEDEC: MS-013; ComponentLink1Description: Manufacturer URL; ComponentLink1URL: http://www.ti.com/; ComponentLink2Description: Datasheet; ComponentLink2URL: http://www.ti.com/general/docs/lit/getliterature.tsp?genericPartNumber=INA115&fileType=pdf; ComponentLink3Description: Package Specification; ComponentLink3URL: http://www.ti.com/litv/pdf/msoi003g
footprint TI-DW16_N (SOIC, 16-Leads, Body 10.5x7.6mm, Pitch 1.27mm, IPC Medium Density)
footprint TI-DW16_L (SOIC, 16-Leads, Body 10.5x7.6mm, Pitch 1.27mm, IPC High Density)
footprint TI-DW16_M (SOIC, 16-Leads, Body 10.5x7.6mm, Pitch 1.27mm, IPC Low Density)
part A pins: 1 VO1 (out), 2 GAIN SENSE1 (in), 3 RG (in), 4 VIN- (in), 5 VIN+ (in), 7 V- (power), 8 VO2 (out), 10 REF (in), 11 VO (out), 12 FEEDBACK (in), 13 V+ (power), 14 RG (in), 15 GAIN SENSE2 (in)
part B pins: 6 NC, 9 NC, 16 NC

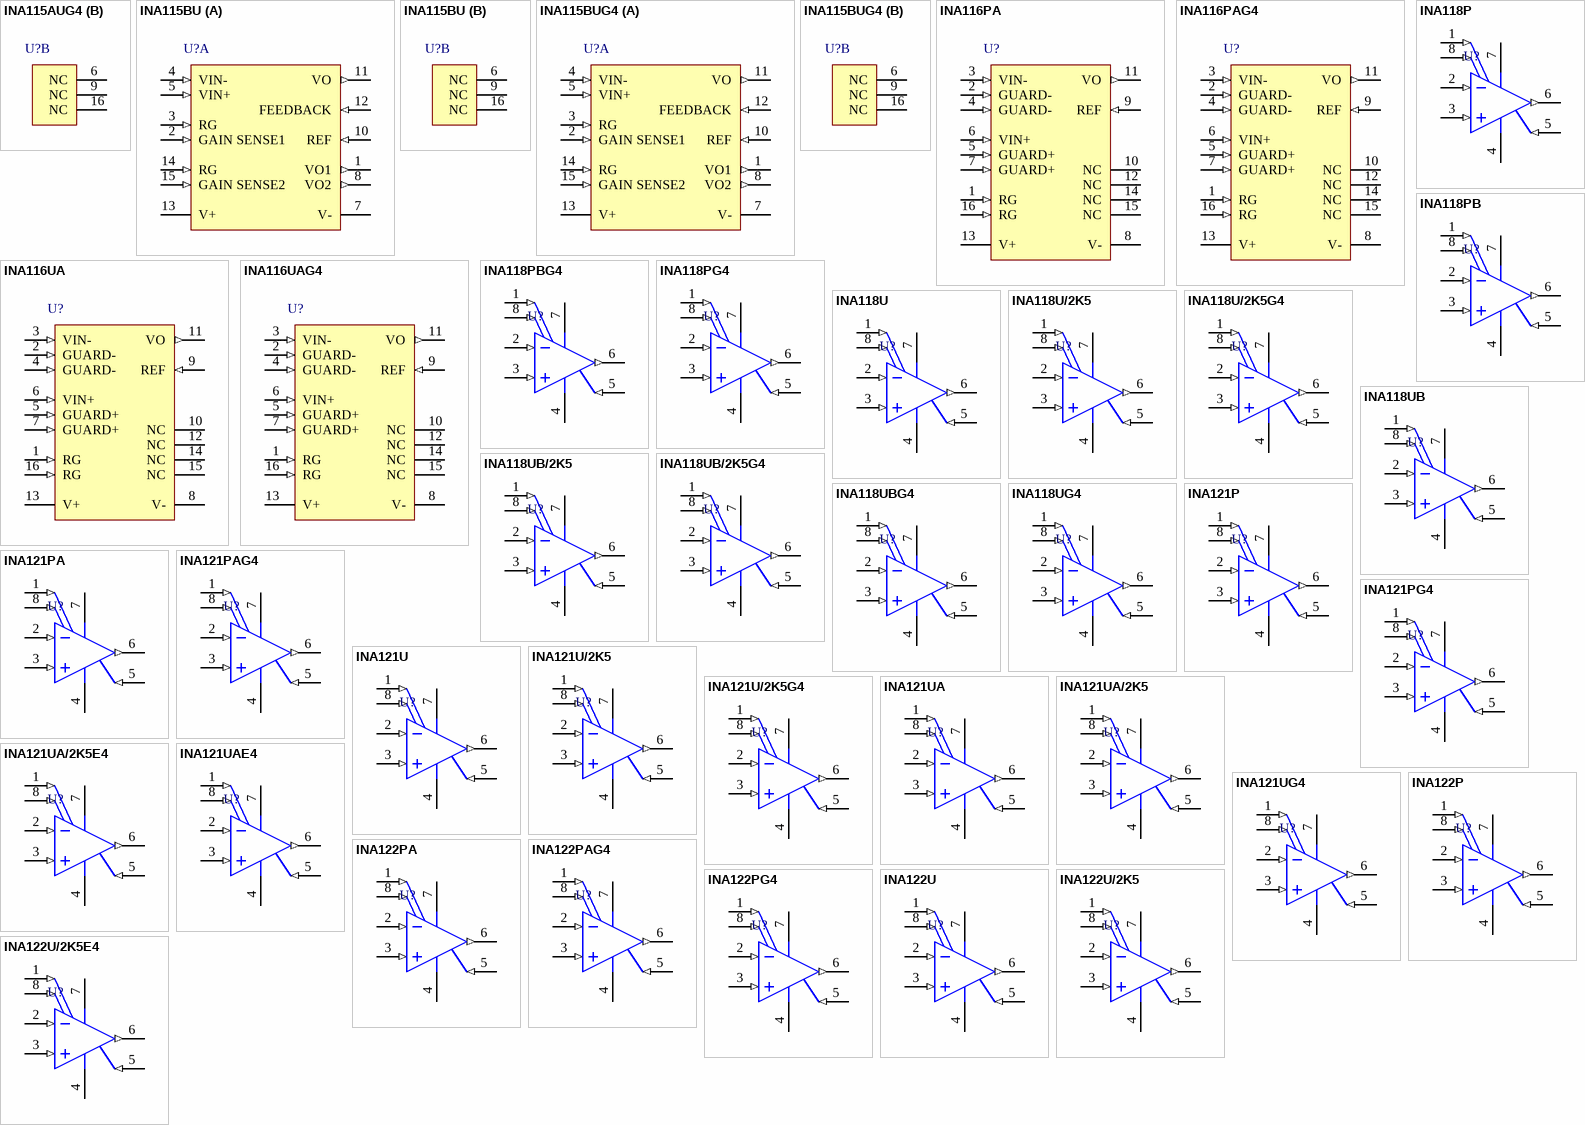
[diagram p2: symbols INA115AUG4 to INA122U/2K5E4]

## INA115AUG4
designator U?
Precision Instrumentation Amplifier, -40 to 85 degC, 16-pin SOIC (DW16), Green (RoHS & no Sb/Br); Manufacturer: Texas Instruments; PartNumber: INA115AUG4; CMRR(Min)(dB): 106; Gain(V/V): 1 to 10000; Input Bias Current (+/-)(Max)(nA): 5; Input Offset (+/-)(Max)(uV): 125; Input Offset Drift (+/-)(Max)(uV/Degrees Celsius): 1; Noise at 1kHz(Typ)(nV/rt(Hz)): 11; Non-Linearity (+/-)(Max)(%): 0.004; Output Offset (+/-)(Max)(uV): 500/G; Output Offset Drift (+/-)(Max)(uV/Degrees Celsius): 10/G; Quiescent Current (+/-)(Typ)(mA): 2.2; SubFamily: Dual Supply; Vs(Max)(V): 36; Vs(Min)(V): 4.5; DatasheetVersion: SBOS021; PackageVersion: 4040000-2/G, 01/2011; PackageReference: DW16; PackageDescription: 16-Pin Plastic Small Outline, Body 10.30 x 7.50 mm, Pitch 1.27 mm; Supplier 1: Digi-Key; Supplier Part Number 1: INA115AUG4-ND; Supplier 2: Mouser; Supplier Part Number 2: 595-INA115AUG4; Eco-Plan: Green (RoHS & no Sb/Br); Number of Channels: 1; Mounting Technology: Surface Mount; Code_JEDEC: MS-013; ComponentLink1Description: Manufacturer URL; ComponentLink1URL: http://www.ti.com/; ComponentLink2Description: Datasheet; ComponentLink2URL: http://www.ti.com/general/docs/lit/getliterature.tsp?genericPartNumber=INA115&fileType=pdf; ComponentLink3Description: Package Specification; ComponentLink3URL: http://www.ti.com/litv/pdf/msoi003g
footprint TI-DW16_N (SOIC, 16-Leads, Body 10.5x7.6mm, Pitch 1.27mm, IPC Medium Density)
footprint TI-DW16_L (SOIC, 16-Leads, Body 10.5x7.6mm, Pitch 1.27mm, IPC High Density)
footprint TI-DW16_M (SOIC, 16-Leads, Body 10.5x7.6mm, Pitch 1.27mm, IPC Low Density)
part A pins: 1 VO1 (out), 2 GAIN SENSE1 (in), 3 RG (in), 4 VIN- (in), 5 VIN+ (in), 7 V- (power), 8 VO2 (out), 10 REF (in), 11 VO (out), 12 FEEDBACK (in), 13 V+ (power), 14 RG (in), 15 GAIN SENSE2 (in)
part B pins: 6 NC, 9 NC, 16 NC

## INA115BU
designator U?
Precision Instrumentation Amplifier, -40 to 85 degC, 16-pin SOIC (DW16), Green (RoHS & no Sb/Br); Manufacturer: Texas Instruments; PartNumber: INA115BU; CMRR(Min)(dB): 110; Gain(V/V): 1 to 10000; Input Bias Current (+/-)(Max)(nA): 2; Input Offset (+/-)(Max)(uV): 50; Input Offset Drift (+/-)(Max)(uV/Degrees Celsius): 0.25; Noise at 1kHz(Typ)(nV/rt(Hz)): 11; Non-Linearity (+/-)(Max)(%): 0.002; Number of Channels: 1; Output Offset (+/-)(Max)(uV): 100/G; Output Offset Drift (+/-)(Max)(uV/Degrees Celsius): 5/G; Quiescent Current (+/-)(Typ)(mA): 2.2; SubFamily: Dual Supply; Vs(Max)(V): 36; Vs(Min)(V): 4.5; DatasheetVersion: SBOS021; PackageVersion: 4040000-2/G, 01/2011; PackageReference: DW16; PackageDescription: 16-Pin Plastic Small Outline, Body 10.30 x 7.50 mm, Pitch 1.27 mm; Supplier 1: Digi-Key; Supplier Part Number 1: INA115BU-ND; Supplier 2: Farnell; Supplier Part Number 2: 1459458; Supplier 3: Newark; Supplier Part Number 3: 61M6783; Supplier 4: Newark; Supplier Part Number 4: 74C9763; Supplier 5: Mouser; Supplier Part Number 5: 595-INA115BU; Eco-Plan: Green (RoHS & no Sb/Br); Mounting Technology: Surface Mount; Code_JEDEC: MS-013; ComponentLink1Description: Manufacturer URL; ComponentLink1URL: http://www.ti.com/; ComponentLink2Description: Datasheet; ComponentLink2URL: http://www.ti.com/general/docs/lit/getliterature.tsp?genericPartNumber=INA115&fileType=pdf; ComponentLink3Description: Package Specification; ComponentLink3URL: http://www.ti.com/litv/pdf/msoi003g
footprint TI-DW16_N (SOIC, 16-Leads, Body 10.5x7.6mm, Pitch 1.27mm, IPC Medium Density)
footprint TI-DW16_L (SOIC, 16-Leads, Body 10.5x7.6mm, Pitch 1.27mm, IPC High Density)
footprint TI-DW16_M (SOIC, 16-Leads, Body 10.5x7.6mm, Pitch 1.27mm, IPC Low Density)
part A pins: 1 VO1 (out), 2 GAIN SENSE1 (in), 3 RG (in), 4 VIN- (in), 5 VIN+ (in), 7 V- (power), 8 VO2 (out), 10 REF (in), 11 VO (out), 12 FEEDBACK (in), 13 V+ (power), 14 RG (in), 15 GAIN SENSE2 (in)
part B pins: 6 NC, 9 NC, 16 NC

## INA115BUG4
designator U?
Precision Instrumentation Amplifier, -40 to 85 degC, 16-pin SOIC (DW16), Green (RoHS & no Sb/Br); Manufacturer: Texas Instruments; PartNumber: INA115BUG4; CMRR(Min)(dB): 110; Gain(V/V): 1 to 10000; Input Bias Current (+/-)(Max)(nA): 2; Input Offset (+/-)(Max)(uV): 50; Input Offset Drift (+/-)(Max)(uV/Degrees Celsius): 0.25; Noise at 1kHz(Typ)(nV/rt(Hz)): 11; Non-Linearity (+/-)(Max)(%): 0.002; Number of Channels: 1; Output Offset (+/-)(Max)(uV): 100/G; Output Offset Drift (+/-)(Max)(uV/Degrees Celsius): 5/G; Quiescent Current (+/-)(Typ)(mA): 2.2; SubFamily: Dual Supply; Vs(Max)(V): 36; Vs(Min)(V): 4.5; DatasheetVersion: SBOS021; PackageVersion: 4040000-2/G, 01/2011; PackageReference: DW16; PackageDescription: 16-Pin Plastic Small Outline, Body 10.30 x 7.50 mm, Pitch 1.27 mm; Supplier 1: Digi-Key; Supplier Part Number 1: INA115BUG4-ND; Supplier 2: Mouser; Supplier Part Number 2: 595-INA115BUG4; Eco-Plan: Green (RoHS & no Sb/Br); Mounting Technology: Surface Mount; Code_JEDEC: MS-013; ComponentLink1Description: Manufacturer URL; ComponentLink1URL: http://www.ti.com/; ComponentLink2Description: Datasheet; ComponentLink2URL: http://www.ti.com/general/docs/lit/getliterature.tsp?genericPartNumber=INA115&fileType=pdf; ComponentLink3Description: Package Specification; ComponentLink3URL: http://www.ti.com/litv/pdf/msoi003g
footprint TI-DW16_N (SOIC, 16-Leads, Body 10.5x7.6mm, Pitch 1.27mm, IPC Medium Density)
footprint TI-DW16_L (SOIC, 16-Leads, Body 10.5x7.6mm, Pitch 1.27mm, IPC High Density)
footprint TI-DW16_M (SOIC, 16-Leads, Body 10.5x7.6mm, Pitch 1.27mm, IPC Low Density)
part A pins: 1 VO1 (out), 2 GAIN SENSE1 (in), 3 RG (in), 4 VIN- (in), 5 VIN+ (in), 7 V- (power), 8 VO2 (out), 10 REF (in), 11 VO (out), 12 FEEDBACK (in), 13 V+ (power), 14 RG (in), 15 GAIN SENSE2 (in)
part B pins: 6 NC, 9 NC, 16 NC

## INA116PA
designator U?
Ultra Low Input Bias Current Instrumentation Amplifier, -40 to 85 degC, 16-pin DIP (N16), Green (RoHS & no Sb/Br); Manufacturer: Texas Instruments; PartNumber: INA116PA; CMRR(Min)(dB): 80; Gain(V/V): 1 to 1000; Input Bias Current (+/-)(Max)(nA): 0.0001; Input Offset (+/-)(Max)(uV): 5000; Noise at 1kHz(Typ)(nV/rt(Hz)): 28; Non-Linearity (+/-)(Max)(%): 0.01; Number of Channels: 1; Output Offset (+/-)(Max)(uV): 5000/G; SubFamily: Dual Supply; Vs(Max)(V): 36; Vs(Min)(V): 9; DatasheetVersion: SBOS034; PackageVersion: 4040049/E, 12/2002; PackageReference: N16; PackageDescription: 16-Pin Plastic In-Line, Body 19.305 x 6.35 mm, Pitch 2.54 mm; Supplier 1: Digi-Key; Supplier Part Number 1: INA116PA-ND; Supplier 2: Farnell; Supplier Part Number 2: 1231983; Supplier 3: Newark; Supplier Part Number 3: 78K8300; Supplier 4: Mouser; Supplier Part Number 4: 595-INA116PA; Eco-Plan: Green (RoHS & no Sb/Br); Quiescent Current (+/-)(Typ)(mA): 1; Mounting Technology: Through Hole; Code_JEDEC: MS-001; ComponentLink1Description: Manufacturer URL; ComponentLink1URL: http://www.ti.com/; ComponentLink2Description: Datasheet; ComponentLink2URL: http://www.ti.com/general/docs/lit/getliterature.tsp?genericPartNumber=INA116&fileType=pdf; ComponentLink3Description: Package Specification; ComponentLink3URL: http://www.ti.com/litv/pdf/mpdi002c
footprint TI-N16 (DIP, 16-Leads, Body 19.7x6.6mm, Pitch 2.54mm)
pins: 1 RG (in), 2 GUARD- (in), 3 VIN- (in), 4 GUARD- (in), 5 GUARD+ (in), 6 VIN+ (in), 7 GUARD+ (in), 8 V- (power), 9 REF (in), 10 NC, 11 VO (out), 12 NC, 13 V+ (power), 14 NC, 15 NC, 16 RG (in)

## INA116PAG4
designator U?
Ultra Low Input Bias Current Instrumentation Amplifier, -40 to 85 degC, 16-pin DIP (N16), Green (RoHS & no Sb/Br); Manufacturer: Texas Instruments; PartNumber: INA116PAG4; CMRR(Min)(dB): 80; Gain(V/V): 1 to 1000; Input Bias Current (+/-)(Max)(nA): 0.0001; Input Offset (+/-)(Max)(uV): 5000; Noise at 1kHz(Typ)(nV/rt(Hz)): 28; Non-Linearity (+/-)(Max)(%): 0.01; Number of Channels: 1; Output Offset (+/-)(Max)(uV): 5000/G; SubFamily: Dual Supply; Vs(Max)(V): 36; Vs(Min)(V): 9; DatasheetVersion: SBOS034; PackageVersion: 4040049/E, 12/2002; PackageReference: N16; PackageDescription: 16-Pin Plastic In-Line, Body 19.305 x 6.35 mm, Pitch 2.54 mm; Supplier 1: Digi-Key; Supplier Part Number 1: INA116PAG4-ND; Supplier 2: Farnell; Supplier Part Number 2: 1219422; Supplier 3: Newark; Supplier Part Number 3: 05M0438; Supplier 4: Newark; Supplier Part Number 4: 99K2228; Supplier 5: Mouser; Supplier Part Number 5: 595-INA116PAG4; Eco-Plan: Green (RoHS & no Sb/Br); Quiescent Current (+/-)(Typ)(mA): 1; Mounting Technology: Through Hole; Code_JEDEC: MS-001; ComponentLink1Description: Manufacturer URL; ComponentLink1URL: http://www.ti.com/; ComponentLink2Description: Datasheet; ComponentLink2URL: http://www.ti.com/general/docs/lit/getliterature.tsp?genericPartNumber=INA116&fileType=pdf; ComponentLink3Description: Package Specification; ComponentLink3URL: http://www.ti.com/litv/pdf/mpdi002c
footprint TI-N16 (DIP, 16-Leads, Body 19.7x6.6mm, Pitch 2.54mm)
pins: 1 RG (in), 2 GUARD- (in), 3 VIN- (in), 4 GUARD- (in), 5 GUARD+ (in), 6 VIN+ (in), 7 GUARD+ (in), 8 V- (power), 9 REF (in), 10 NC, 11 VO (out), 12 NC, 13 V+ (power), 14 NC, 15 NC, 16 RG (in)

## INA116UA
designator U?
Ultra Low Input Bias Current Instrumentation Amplifier, -40 to 85 degC, 16-pin SOIC (DW16), Green (RoHS & no Sb/Br); Manufacturer: Texas Instruments; PartNumber: INA116UA; CMRR(Min)(dB): 80; Gain(V/V): 1 to 1000; Input Bias Current (+/-)(Max)(nA): 0.0001; Input Offset (+/-)(Max)(uV): 5000; Noise at 1kHz(Typ)(nV/rt(Hz)): 28; Non-Linearity (+/-)(Max)(%): 0.01; Number of Channels: 1; Output Offset (+/-)(Max)(uV): 5000/G; SubFamily: Dual Supply; Vs(Max)(V): 36; Vs(Min)(V): 9; DatasheetVersion: SBOS034; PackageVersion: 4040000-2/G, 01/2011; PackageReference: DW16; PackageDescription: 16-Pin Plastic Small Outline, Body 10.30 x 7.50 mm, Pitch 1.27 mm; Supplier 1: Digi-Key; Supplier Part Number 1: INA116UA-ND; Supplier 2: Farnell; Supplier Part Number 2: 1212402; Supplier 3: Newark; Supplier Part Number 3: 35C1717; Supplier 4: Mouser; Supplier Part Number 4: 595-INA116UA; Eco-Plan: Green (RoHS & no Sb/Br); Quiescent Current (+/-)(Typ)(mA): 1; Mounting Technology: Surface Mount; Code_JEDEC: MS-013; ComponentLink1Description: Manufacturer URL; ComponentLink1URL: http://www.ti.com/; ComponentLink2Description: Datasheet; ComponentLink2URL: http://www.ti.com/general/docs/lit/getliterature.tsp?genericPartNumber=INA116&fileType=pdf; ComponentLink3Description: Package Specification; ComponentLink3URL: http://www.ti.com/litv/pdf/msoi003g
footprint TI-DW16_N (SOIC, 16-Leads, Body 10.5x7.6mm, Pitch 1.27mm, IPC Medium Density)
footprint TI-DW16_L (SOIC, 16-Leads, Body 10.5x7.6mm, Pitch 1.27mm, IPC High Density)
footprint TI-DW16_M (SOIC, 16-Leads, Body 10.5x7.6mm, Pitch 1.27mm, IPC Low Density)
pins: 1 RG (in), 2 GUARD- (in), 3 VIN- (in), 4 GUARD- (in), 5 GUARD+ (in), 6 VIN+ (in), 7 GUARD+ (in), 8 V- (power), 9 REF (in), 10 NC, 11 VO (out), 12 NC, 13 V+ (power), 14 NC, 15 NC, 16 RG (in)

## INA116UAG4
designator U?
Ultra Low Input Bias Current Instrumentation Amplifier, -40 to 85 degC, 16-pin SOIC (DW16), Green (RoHS & no Sb/Br); Manufacturer: Texas Instruments; PartNumber: INA116UAG4; CMRR(Min)(dB): 80; Gain(V/V): 1 to 1000; Input Bias Current (+/-)(Max)(nA): 0.0001; Input Offset (+/-)(Max)(uV): 5000; Noise at 1kHz(Typ)(nV/rt(Hz)): 28; Non-Linearity (+/-)(Max)(%): 0.01; Number of Channels: 1; Output Offset (+/-)(Max)(uV): 5000/G; SubFamily: Dual Supply; Vs(Max)(V): 36; Vs(Min)(V): 9; DatasheetVersion: SBOS034; PackageVersion: 4040000-2/G, 01/2011; PackageReference: DW16; PackageDescription: 16-Pin Plastic Small Outline, Body 10.30 x 7.50 mm, Pitch 1.27 mm; Supplier 1: Digi-Key; Supplier Part Number 1: INA116UAG4-ND; Supplier 2: Newark; Supplier Part Number 2: 18M2382; Supplier 3: Mouser; Supplier Part Number 3: 595-INA116UAG4; Eco-Plan: Green (RoHS & no Sb/Br); Quiescent Current (+/-)(Typ)(mA): 1; Mounting Technology: Surface Mount; Code_JEDEC: MS-013; ComponentLink1Description: Manufacturer URL; ComponentLink1URL: http://www.ti.com/; ComponentLink2Description: Datasheet; ComponentLink2URL: http://www.ti.com/general/docs/lit/getliterature.tsp?genericPartNumber=INA116&fileType=pdf; ComponentLink3Description: Package Specification; ComponentLink3URL: http://www.ti.com/litv/pdf/msoi003g
footprint TI-DW16_N (SOIC, 16-Leads, Body 10.5x7.6mm, Pitch 1.27mm, IPC Medium Density)
footprint TI-DW16_L (SOIC, 16-Leads, Body 10.5x7.6mm, Pitch 1.27mm, IPC High Density)
footprint TI-DW16_M (SOIC, 16-Leads, Body 10.5x7.6mm, Pitch 1.27mm, IPC Low Density)
pins: 1 RG (in), 2 GUARD- (in), 3 VIN- (in), 4 GUARD- (in), 5 GUARD+ (in), 6 VIN+ (in), 7 GUARD+ (in), 8 V- (power), 9 REF (in), 10 NC, 11 VO (out), 12 NC, 13 V+ (power), 14 NC, 15 NC, 16 RG (in)

## INA118P
designator U?
Precision, Low Power Instrumentation Amplifier, -40 to 85 degC, 8-pin DIP (P8), Green (RoHS & no Sb/Br); Manufacturer: Texas Instruments; PartNumber: INA118P; CMRR(Min)(dB): 98; Gain(V/V): 1 to 10000; Input Bias Current (+/-)(Max)(nA): 10; Input Offset (+/-)(Max)(uV): 125; Input Offset Drift (+/-)(Max)(uV/Degrees Celsius): 1; Non-Linearity (+/-)(Max)(%): 0.004; Output Offset (+/-)(Max)(uV): 1000/G; Output Offset Drift (+/-)(Max)(uV/Degrees Celsius): 20/G; Quiescent Current (+/-)(Typ)(mA): 0.35; SubFamily: Single Supply; Vs(Max)(V): 36; Vs(Min)(V): 2.7; DatasheetVersion: SBOS027; PackageVersion: 4040082/E, 04/2010; PackageReference: P8; PackageDescription: 8-Pin Plastic In-Line, Body 9.59 x 6.35 mm, Pitch 2.54 mm; Supplier 1: Digi-Key; Supplier Part Number 1: INA118P-ND; Supplier 2: Newark; Supplier Part Number 2: 96K4515; Supplier 3: Mouser; Supplier Part Number 3: 595-INA118P; Eco-Plan: Green (RoHS & no Sb/Br); Noise at 1kHz(Typ)(nV/rt(Hz)): 10; Number of Channels: 1; Mounting Technology: Through Hole; Code_JEDEC: MS-001; ComponentLink1Description: Manufacturer URL; ComponentLink1URL: http://www.ti.com/; ComponentLink2Description: Datasheet; ComponentLink2URL: http://www.ti.com/general/docs/lit/getliterature.tsp?genericPartNumber=INA118&fileType=pdf; ComponentLink3Description: Package Specification; ComponentLink3URL: http://www.ti.com/litv/pdf/mpdi001b
footprint TI-P8 (DIP, 8-Leads, Body 10.15x6.6mm, Pitch 2.54mm)
pins: 1 RG (in), 2 VIN- (in), 3 VIN+ (in), 4 V- (power), 5 REF (in), 6 VO (out), 7 V+ (power), 8 RG (in)

## INA118PB
designator U?
Precision, Low Power Instrumentation Amplifier, -40 to 85 degC, 8-pin DIP (P8), Green (RoHS & no Sb/Br); Manufacturer: Texas Instruments; PartNumber: INA118PB; CMRR(Min)(dB): 107; Gain(V/V): 1 to 10000; Input Bias Current (+/-)(Max)(nA): 5; Input Offset (+/-)(Max)(uV): 50; Input Offset Drift (+/-)(Max)(uV/Degrees Celsius): 0.5; Noise at 1kHz(Typ)(nV/rt(Hz)): 10; Non-Linearity (+/-)(Max)(%): 0.002; Number of Channels: 1; Output Offset (+/-)(Max)(uV): 500/G; Output Offset Drift (+/-)(Max)(uV/Degrees Celsius): 20/G; Quiescent Current (+/-)(Typ)(mA): 0.35; SubFamily: Single Supply; Vs(Max)(V): 36; Vs(Min)(V): 2.7; DatasheetVersion: SBOS027; PackageVersion: 4040082/E, 04/2010; PackageReference: P8; PackageDescription: 8-Pin Plastic In-Line, Body 9.59 x 6.35 mm, Pitch 2.54 mm; Supplier 1: Digi-Key; Supplier Part Number 1: INA118PB-ND; Supplier 2: Farnell; Supplier Part Number 2: 1212403; Supplier 3: Newark; Supplier Part Number 3: 01M7972; Supplier 4: Newark; Supplier Part Number 4: 35C1719; Supplier 5: Mouser; Supplier Part Number 5: 595-INA118PB; Eco-Plan: Green (RoHS & no Sb/Br); Mounting Technology: Through Hole; Code_JEDEC: MS-001; ComponentLink1Description: Manufacturer URL; ComponentLink1URL: http://www.ti.com/; ComponentLink2Description: Datasheet; ComponentLink2URL: http://www.ti.com/general/docs/lit/getliterature.tsp?genericPartNumber=INA118&fileType=pdf; ComponentLink3Description: Package Specification; ComponentLink3URL: http://www.ti.com/litv/pdf/mpdi001b
footprint TI-P8 (DIP, 8-Leads, Body 10.15x6.6mm, Pitch 2.54mm)
pins: 1 RG (in), 2 VIN- (in), 3 VIN+ (in), 4 V- (power), 5 REF (in), 6 VO (out), 7 V+ (power), 8 RG (in)